# Altium schematic symbol library CAP,Cer,1nF,50VDC,X7R,0805.Schlib: 1 symbol
Pins are listed as number, name and electrical type; pins without a type are passive.

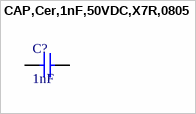
[diagram p0: symbol CAP,Cer,1nF,50VDC,X7R,0805]

## CAP,Cer,1nF,50VDC,X7R,0805
designator C?, comment 1nF
CAP CER 1000PF 50V X7R 0805
pins: 1, 2